# Altium footprint library Digital_Sampling_Board-20200820.PcbLib: 34 footprints (part 1 of 3)
Each footprint in its own frame and in the unit in brackets; x right, y up, seen from the top. Pads: shape width x height; smd on the part's side, far side on the other; paste and mask are expansions set on the pad; w line width, h text height; cw(c..) or ccw(c..) is an arc to the next point about the centre after c.
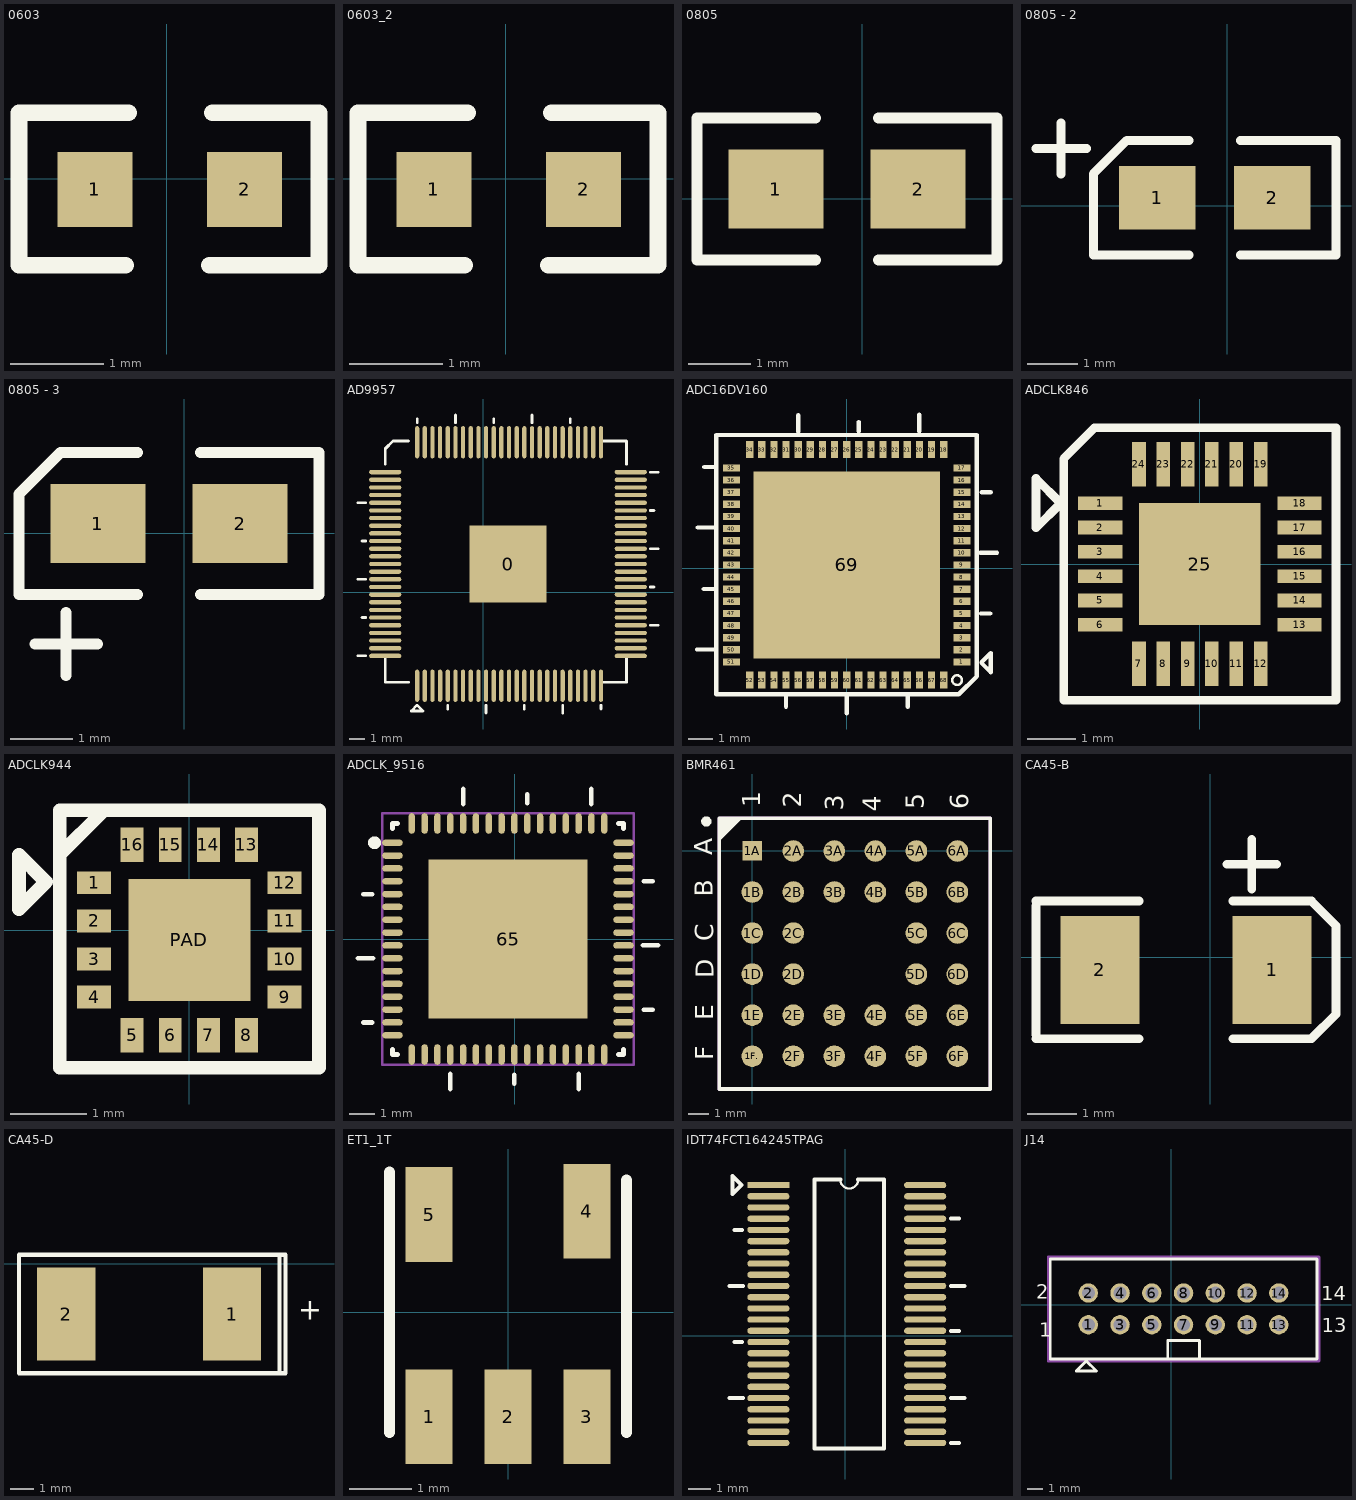
[diagram p0: the footprints below, top view; thin cyan lines are the x and y axes]

## 0603 [mm]
pads (2):
  rect 0.8x0.8 smd: 1(-0.766,-0.115) 2(0.834,-0.115)
Top Overlay:
  lines w0.178: -1.577,-0.926 -1.577,0.705 -0.406,0.705 ; -1.562,-0.926 -0.438,-0.926 ; 0.457,-0.926 1.628,-0.926 1.628,0.705 ; 0.489,0.705 1.613,0.705

## 0603_2 [mm]
pads (2):
  rect 0.8x0.8 smd: 1(-0.766,-0.115) 2(0.834,-0.115)
Top Overlay:
  lines w0.178: -1.577,-0.926 -1.577,0.705 -0.406,0.705 ; -1.562,-0.926 -0.438,-0.926 ; 0.457,-0.926 1.628,-0.926 1.628,0.705 ; 0.489,0.705 1.613,0.705

## 0805 [mil]
pads (2):
  rect 60x50 smd: 1(-54.69,6.26) 2(35.31,6.26)
Top Overlay:
  lines w7: -29.68,-38.74 -104.69,-38.74 -104.69,51.26 -29.68,51.26 ; 10.31,-38.74 85.31,-38.74 85.31,51.26 10.31,51.26

## 0805 - 2 [mil]
pads (2):
  rect 60x50 smd: 1(-54.69,6.26) 2(35.31,6.26)
Top Overlay:
  lines w7: -149.69,45 -110,45 ; -130,25 -130,65 ; -75,51.26 -78.43,51.26 ; -29.68,-38.74 -104.69,-38.74 -104.69,25 ; -29.68,51.26 -78.43,51.26 ; 10.31,-38.74 85.31,-38.74 85.31,51.26 10.31,51.26 ; -104.69,25 -78.43,51.26 ; -104.69,25 -78.43,51.26

## 0805 - 3 [mil]
pads (2):
  rect 60x50 smd: 1(-54.69,6.26) 2(35.31,6.26)
Top Overlay:
  lines w7: -94.69,-70 -55,-70 ; -75,-90 -75,-50 ; -75,51.26 -78.43,51.26 ; -29.68,-38.74 -104.69,-38.74 -104.69,25 ; -29.68,51.26 -78.43,51.26 ; 10.31,-38.74 85.31,-38.74 85.31,51.26 10.31,51.26 ; -104.69,25 -78.43,51.26 ; -104.69,25 -78.43,51.26

## AD9957 [mm]
pads (101):
  rect 5x5 smd: 0(1.614,1.854)
  oval 0.28x2.1 smd: 1(-4.318,-6.096) 2(-3.818,-6.096) 3(-3.318,-6.096) 4(-2.818,-6.096) 5(-2.318,-6.096) 6(-1.818,-6.096) 7(-1.318,-6.096) 8(-0.818,-6.096) 9(-0.318,-6.096) 10(0.182,-6.096) 11(0.682,-6.096) 12(1.182,-6.096) 13(1.682,-6.096) 14(2.182,-6.096) 15(2.682,-6.096) 16(3.182,-6.096) 17(3.682,-6.096) 18(4.182,-6.096) 19(4.682,-6.096) 20(5.182,-6.096) 21(5.682,-6.096) 22(6.182,-6.096) 23(6.682,-6.096) 24(7.182,-6.096) 25(7.682,-6.096) 51(7.682,9.804) 52(7.182,9.804) 53(6.682,9.804) 54(6.182,9.804) 55(5.682,9.804) 56(5.182,9.804) 57(4.682,9.804) 58(4.182,9.804) 59(3.682,9.804) 60(3.182,9.804) 61(2.682,9.804) 62(2.182,9.804) 63(1.682,9.804) 64(1.182,9.804) 65(0.682,9.804) 66(0.182,9.804) 67(-0.318,9.804) 68(-0.818,9.804) 69(-1.318,9.804) 70(-1.818,9.804) 71(-2.318,9.804) 72(-2.82,9.804) 73(-3.318,9.804) 74(-3.818,9.804) 75(-4.318,9.804)
  oval 2.1x0.28 smd: 26(9.632,-4.146) 27(9.632,-3.646) 28(9.632,-3.146) 29(9.632,-2.646) 30(9.632,-2.146) 31(9.632,-1.646) 32(9.632,-1.146) 33(9.632,-0.646) 34(9.632,-0.146) 35(9.632,0.354) 36(9.632,0.854) 37(9.632,1.354) 38(9.632,1.854) 39(9.632,2.354) 40(9.632,2.854) 41(9.632,3.354) 42(9.632,3.854) 43(9.632,4.354) 44(9.632,4.854) 45(9.632,5.354) 46(9.632,5.854) 47(9.632,6.354) 48(9.632,6.854) 49(9.632,7.354) 50(9.632,7.854) 76(-6.403,7.854) 77(-6.403,7.354) 78(-6.403,6.854) 79(-6.403,6.354) 80(-6.403,5.854) 81(-6.403,5.354) 82(-6.403,4.854) 83(-6.403,4.354) 84(-6.403,3.854) 85(-6.403,3.354) 86(-6.403,2.854) 87(-6.403,2.354) 88(-6.403,1.854) 89(-6.403,1.354) 90(-6.403,0.854) 91(-6.403,0.354) 92(-6.403,-0.146) 93(-6.403,-0.646) 94(-6.403,-1.146) 95(-6.403,-1.646) 96(-6.403,-2.146) 97(-6.403,-2.646) 98(-6.403,-3.146) 99(-6.403,-3.646) 100(-6.403,-4.146)
Top Overlay:
  lines w0.178: -8.181,-4.146 -7.673,-4.146 ; -8.181,0.854 -7.673,0.854 ; -8.179,5.862 -7.671,5.862 ; -7.927,-1.646 -7.673,-1.646 ; -7.927,3.354 -7.673,3.354 ; -6.401,-4.338 -6.401,-5.862 -4.877,-5.862 ; -6.401,8.362 -6.401,9.378 -5.893,9.886 -4.877,9.886 ; -4.318,11.074 -4.318,11.328 ; -2.318,-7.62 -2.318,-7.366 ; -1.818,11.074 -1.818,11.582 ; 0.182,-7.874 0.182,-7.366 ; 0.682,11.074 0.682,11.328 ; 2.682,-7.62 2.682,-7.366 ; 3.182,11.074 3.182,11.582 ; 5.182,-7.874 5.182,-7.366 ; 5.682,11.074 5.682,11.328 ; 7.682,-7.62 7.682,-7.366 ; 7.823,-5.862 9.347,-5.862 9.347,-4.338 ; 7.823,9.886 9.347,9.886 9.347,8.362 ; 10.902,-2.148 11.41,-2.148 ; 10.902,0.354 11.156,0.354 ; 10.902,2.854 11.41,2.854 ; 10.902,5.354 11.156,5.354 ; 10.902,7.854 11.41,7.854 ; -4.699,-7.747 -4.318,-7.366 -3.937,-7.747 -4.699,-7.747

## ADC16DV160 [mm]
pads (69):
  rect 0.7x0.3 smd: 1(4.75,-3.873) 2(4.75,-3.373) 3(4.75,-2.873) 4(4.75,-2.373) 5(4.75,-1.873) 6(4.75,-1.373) 7(4.75,-0.873) 8(4.75,-0.373) 9(4.75,0.127) 10(4.75,0.627) 11(4.75,1.127) 12(4.75,1.627) 13(4.75,2.127) 14(4.75,2.627) 15(4.75,3.127) 16(4.75,3.627) 17(4.75,4.127) 35(-4.75,4.127) 36(-4.75,3.627) 37(-4.75,3.127) 38(-4.75,2.627) 39(-4.75,2.127) 40(-4.75,1.627) 41(-4.75,1.127) 42(-4.75,0.627) 43(-4.75,0.127) 44(-4.75,-0.373) 45(-4.75,-0.873) 46(-4.75,-1.373) 47(-4.75,-1.873) 48(-4.75,-2.373) 49(-4.75,-2.873) 50(-4.75,-3.373) 51(-4.75,-3.873)
  rect 0.3x0.7 smd: 18(4,4.877) 19(3.5,4.877) 20(3,4.877) 21(2.5,4.877) 22(2,4.877) 23(1.5,4.877) 24(1,4.877) 25(0.5,4.877) 26(0,4.877) 27(-0.5,4.877) 28(-1,4.877) 29(-1.5,4.877) 30(-2,4.877) 31(-2.5,4.877) 32(-3,4.877) 33(-3.5,4.877) 34(-4,4.877) 52(-4,-4.623) 53(-3.5,-4.623) 54(-3,-4.623) 55(-2.5,-4.623) 56(-2,-4.623) 57(-1.5,-4.623) 58(-1,-4.623) 59(-0.5,-4.623) 60(0,-4.623) 61(0.5,-4.623) 62(1,-4.623) 63(1.5,-4.623) 64(2,-4.623) 65(2.5,-4.623) 66(3,-4.623) 67(3.5,-4.623) 68(4,-4.623)
  rect 7.7x7.7 smd: 69(0,0.127)
Top Overlay:
  circle w0.1: c4.55,-4.623 r0.2
  lines w0.178: -6.172,-3.362 -5.486,-3.362 ; -6.147,1.668 -5.461,1.668 ; -5.893,-0.864 -5.512,-0.864 ; -5.867,4.166 -5.486,4.166 ; -2.5,-5.715 -2.5,-5.334 ; -1.998,5.613 -1.998,6.299 ; -0.002,-5.994 -0.002,-5.309 ; 0.5,5.639 0.5,6.02 ; 2.515,-5.715 2.515,-5.334 ; 2.988,5.639 2.988,6.325 ; 5.512,0.625 6.198,0.625 ; 5.537,-1.873 5.918,-1.873 ; 5.563,-3.912 5.944,-4.293 5.944,-3.505 5.563,-3.886 ; 5.563,3.124 5.944,3.124 ; -5.385,-5.207 4.623,-5.207 5.369,-4.461 5.369,5.486 -5.385,5.486 -5.385,-5.207

## ADCLK846 [mm]
pads (25):
  rect 0.914x0.279 smd: 1(-2.05,1.25) 2(-2.05,0.75) 3(-2.05,0.25) 4(-2.05,-0.25) 5(-2.05,-0.75) 6(-2.05,-1.25) 13(2.05,-1.25) 14(2.05,-0.75) 15(2.05,-0.25) 16(2.05,0.25) 17(2.05,0.75) 18(2.05,1.25)
  rect 0.279x0.914 smd: 7(-1.25,-2.05) 8(-0.75,-2.05) 9(-0.25,-2.05) 10(0.25,-2.05) 11(0.75,-2.05) 12(1.25,-2.05) 19(1.25,2.05) 20(0.75,2.05) 21(0.25,2.05) 22(-0.25,2.05) 23(-0.75,2.05) 24(-1.25,2.05)
  rect 2.5x2.5 smd: 25(0,0)
Top Overlay:
  lines w0.178: -3.367,0.742 -2.859,1.25 -3.367,1.758 -3.367,0.742 ; -2.8,-2.8 -2.8,2.165 -2.165,2.8 2.8,2.8 2.8,-2.8 -2.8,-2.8

## ADCLK944 [mm]
pads (17):
  rect 0.45x0.3 smd: 1(-1.25,0.623) 2(-1.25,0.123) 3(-1.25,-0.377) 4(-1.25,-0.877) 9(1.25,-0.877) 10(1.25,-0.377) 11(1.25,0.123) 12(1.25,0.623)
  rect 0.3x0.45 smd: 5(-0.75,-1.377) 6(-0.25,-1.377) 7(0.25,-1.377) 8(0.75,-1.377) 13(0.75,1.123) 14(0.25,1.123) 15(-0.25,1.123) 16(-0.75,1.123)
  rect 1.6x1.6 smd: PAD(0,-0.127)
Top Overlay:
  lines w0.178: -1.689,1.003 -1.143,1.549 ; -2.235,0.279 -1.88,0.635 -2.235,0.991 -2.235,0.279 ; -1.702,-1.803 1.702,-1.803 1.702,1.575 -1.702,1.575 -1.702,-1.803

## ADCLK_9516 [mm]
pads (65):
  oval 0.8x0.25 smd: 1(-4.754,3.75) 2(-4.754,3.25) 3(-4.754,2.75) 4(-4.754,2.25) 5(-4.754,1.75) 6(-4.754,1.25) 7(-4.754,0.75) 8(-4.754,0.25) 9(-4.754,-0.25) 10(-4.754,-0.75) 11(-4.754,-1.25) 12(-4.754,-1.75) 13(-4.754,-2.25) 14(-4.754,-2.75) 15(-4.754,-3.25) 16(-4.754,-3.75) 33(4.246,-3.75) 34(4.246,-3.25) 35(4.246,-2.75) 36(4.246,-2.25) 37(4.246,-1.75) 38(4.246,-1.25) 39(4.246,-0.75) 40(4.246,-0.25) 41(4.246,0.25) 42(4.246,0.75) 43(4.246,1.25) 44(4.246,1.75) 45(4.246,2.25) 46(4.246,2.75) 47(4.246,3.25) 48(4.246,3.75)
  oval 0.25x0.8 smd: 17(-4.004,-4.5) 18(-3.504,-4.5) 19(-3.004,-4.5) 20(-2.504,-4.5) 21(-2.004,-4.5) 22(-1.504,-4.5) 23(-1.004,-4.5) 24(-0.504,-4.5) 25(-0.004,-4.5) 26(0.496,-4.5) 27(0.996,-4.5) 28(1.496,-4.5) 29(1.996,-4.5) 30(2.496,-4.5) 31(2.996,-4.5) 32(3.496,-4.5) 49(3.496,4.5) 50(2.996,4.5) 51(2.496,4.5) 52(1.996,4.5) 53(1.496,4.5) 54(0.996,4.5) 55(0.496,4.5) 56(-0.004,4.5) 57(-0.504,4.5) 58(-1.004,4.5) 59(-1.504,4.5) 60(-2.004,4.5) 61(-2.504,4.5) 62(-3.004,4.5) 63(-3.504,4.5) 64(-4.004,4.5)
  rect 6.2x6.2 smd: 65(-0.254,0)
Top Overlay:
  circle w0.25: c-5.454,3.75 r0.125
  lines w0.178: -6.098,-0.75 -5.513,-0.75 ; -5.892,-3.252 -5.539,-3.252 ; -5.892,1.748 -5.539,1.748 ; -2.504,-5.844 -2.504,-5.259 ; -2.004,5.259 -2.004,5.844 ; -0.002,-5.638 -0.002,-5.285 ; 0.494,5.285 0.494,5.638 ; 2.496,-5.844 2.496,-5.259 ; 2.996,5.259 2.996,5.844 ; 5.005,-0.25 5.59,-0.25 ; 5.031,-2.748 5.384,-2.748 ; 5.031,2.252 5.384,2.252
  lines w0.2: -4.754,-4.3 -4.754,-4.5 -4.554,-4.5 ; -4.754,4.3 -4.754,4.5 -4.554,4.5 ; 4.046,-4.5 4.246,-4.5 4.246,-4.3 ; 4.046,4.5 4.246,4.5 4.246,4.3
Mechanical 10:
  lines w0.1: -0.754,0 0.246,0 ; -0.254,-0.5 -0.254,0.5 ; -5.154,-4.9 -5.154,4.9 4.646,4.9 4.646,-4.9 -5.154,-4.9

## BMR461 [mm]
pads (32):
  rect 0.95x0.95 smd: 1A(0,0)
  round 1.05 smd: 1B(0,-2) 1C(0,-4) 1D(0,-6) 1E(0,-8) 1F.(0,-10) 2A(2,0) 2B(2,-2) 2C(2,-4) 2D(2,-6) 2E(2,-8) 2F(2,-10) 3A(4,0) 3B(4,-2) 3E(4,-8) 3F(4,-10) 4A(6,0) 4B(6,-2) 4E(6,-8) 4F(6,-10) 5A(8,0) 5B(8,-2) 5C(8,-4) 5D(8,-6) 5E(8,-8) 5F(8,-10) 6A(10,0) 6B(10,-2) 6C(10,-4) 6D(10,-6) 6E(10,-8) 6F(10,-10)
Top Overlay:
  circle w0.25: c-2.239,1.439 r0.125
  region: -0.6,1.6 -1.6,0.6 -1.6,1.6
  lines w0.178: -1.6,0.6 -0.6,1.6 ; -1.6,-11.6 -1.6,1.6 11.6,1.6 11.6,-11.6 -1.6,-11.6
  text "A" at -1.944,-0.215 h0.89
  text "B" at -1.936,-2.225 h0.89
  text "C" at -1.913,-4.397 h0.89
  text "D" at -1.871,-6.197 h0.89
  text "E" at -1.913,-8.249 h0.89
  text "F" at -1.908,-10.203 h0.89
  text "1" at 0.398,2.132 h0.89
  text "2" at 2.387,2.106 h0.89
  text "3" at 4.442,1.954 h0.89
  text "4" at 6.275,1.924 h0.89
  text "5" at 8.368,2.028 h0.89
  text "6" at 10.538,2.028 h0.89
Mechanical 13:
  lines w0.178: -1.6,-11.6 -1.6,1.6 11.6,1.6 11.6,-11.6 -1.6,-11.6

## CA45-B [mm]
pads (2):
  rect 1.6x2.2 smd: 1(1.26,-0.262) 2(-2.24,-0.262)
Top Overlay:
  lines w0.178: -3.54,-1.662 -1.44,-1.662 ; -3.54,-1.581 -3.54,1.043 ; -3.54,1.138 -1.44,1.138 ; 0.337,1.886 1.353,1.886 ; 0.46,-1.662 2.06,-1.662 2.56,-1.162 2.56,0.638 2.06,1.138 0.46,1.138 ; 0.845,1.378 0.845,2.394

## CA45-D [mil]
pads (2):
  rect 98.43x157.48 smd: 1(-265,-85) 2(-545,-85)
Top Overlay:
  lines w7: -185,-185 -185,15 ; -185,15 -175,15 -175,-185 -625,-185 -625,15 -185,15
  text "+" at -153.11,-94.92 h35

## ET1_1T [mil]
pads (5):
  rect 30x60 smd: 1(-50,-66) 2(0,-66) 3(50,-66) 4(50,64) 5(-50,61.95)
Top Overlay:
  lines w7: -75,-76 -75,-66 -75,-31 -75,29 -75,89 ; 75,-76 75,84

## IDT74FCT164245TPAG [mil]
pads (48):
  rect 74x11 smd: 1(-135.11,264.82)
  oval 74x11 smd: 2(-135.11,245.13) 3(-135.11,225.45) 4(-135.11,205.76) 5(-135.11,186.08) 6(-135.11,166.39) 7(-135.11,146.71) 8(-135.11,127.02) 9(-135.11,107.34) 10(-135.11,87.65) 11(-135.11,67.97) 12(-135.11,48.28) 13(-135.11,28.6) 14(-135.11,8.91) 15(-135.11,-10.77) 16(-135.11,-30.46) 17(-135.11,-50.14) 18(-135.11,-69.83) 19(-135.11,-89.51) 20(-135.11,-109.2) 21(-135.11,-128.88) 22(-135.11,-148.57) 23(-135.11,-168.25) 24(-135.11,-187.94) 25(140.31,-187.94) 26(140.31,-168.25) 27(140.31,-148.57) 28(140.31,-128.88) 29(140.31,-109.2) 30(140.31,-89.51) 31(140.31,-69.83) 32(140.31,-50.14) 33(140.31,-30.46) 34(140.31,-10.77) 35(140.31,8.91) 36(140.31,28.6) 37(140.31,48.28) 38(140.31,67.97) 39(140.31,87.65) 40(140.31,107.34) 41(140.31,127.02) 42(140.31,146.71) 43(140.31,166.39) 44(140.31,186.08) 45(140.31,205.76) 46(140.31,225.45) 47(140.31,245.13) 48(140.31,264.82)
Top Overlay:
  lines w3.94: -8.81,274.66 ccw(c6.94,274.66) 22.69,274.66
  lines w7: -203,-109 -180,-109 ; -203,87.65 -180,87.65 ; -194.92,-10.77 -181,-10.77 ; -194.92,186 -181,186 ; -8.81,274.66 -53.89,274.66 -53.89,-197.78 67.77,-197.78 67.77,274.66 22.69,274.66 ; 186,-188 199.92,-188 ; 186,-109 209,-109 ; 186,8.85 199.92,8.85 ; 186,87.85 209,87.85 ; 186,205.7 199.92,205.7 ; -198,249 -198,281 -182,265 -198,249

## J14 [mil]
pads (14):
  round 48 hole 32: 1(-206.22,-49.37) 2(-206.22,29.37) 3(-127.48,-49.37) 4(-127.48,29.37) 5(-48.74,-49.37) 6(-48.74,29.37) 7(30,-49.37) 8(30,29.37) 9(108.74,-49.37) 10(108.74,29.37) 11(187.48,-49.37) 12(187.48,29.37) 13(266.22,-49.37) 14(266.22,29.37)
Top Overlay:
  lines w7: -9.37,-134.02 -9.37,-88.74 69.37,-88.74 69.37,-134.02 ; -300.71,-134.02 360.71,-134.02 360.71,114.02 -300.71,114.02 -300.71,-134.02 ; -236.22,-164.37 -211.22,-139.37 -186.22,-164.37 -236.22,-164.37
  text "14" at 372,11 h35
  text "13" at 373,-68 h35
  text "2" at -336,15 h35
  text "1" at -328,-79 h35
Mechanical 12:
  lines w7: -305.71,-139.02 365.71,-139.02 365.71,119.02 -305.71,119.02 -305.71,-139.02